# EAGLE library part TM1637 (library tm1637)
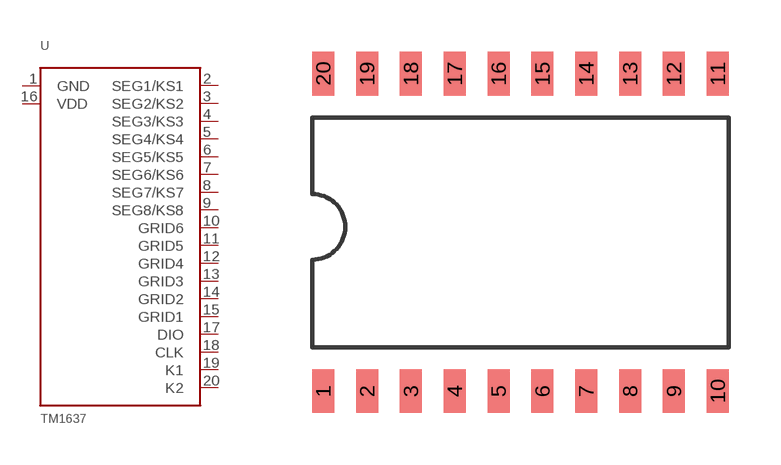
[diagram p0: symbol with the pads of SOP20; footprint SOP20]

Designator prefix -

## TM1637SOP20  [SOP20]
1  GND
2  SEG1/KS1
3  SEG2/KS2
4  SEG3/KS3
5  SEG4/KS4
6  SEG5/KS5
7  SEG6/KS6
8  SEG7/KS7
9  SEG8/KS8
10  GRID6
11  GRID5
12  GRID4
13  GRID3
14  GRID2
15  GRID1
16  VDD
17  DIO
18  CLK
19  K1
20  K2

## Footprint SOP20 (pad centres in mm)
smd 0.635 x 1.27: 1 -5.08,-5.08; 2 -3.81,-5.08; 3 -2.54,-5.08; 4 -1.27,-5.08; 5 0,-5.08; 6 1.27,-5.08; 7 2.54,-5.08; 8 3.81,-5.08; 9 5.08,-5.08; 10 6.35,-5.08; 11 6.35,4.128; 12 5.08,4.128; 13 3.81,4.128; 14 2.54,4.128; 15 1.27,4.128; 16 0,4.128; 17 -1.27,4.128; 18 -2.54,4.128; 19 -3.81,4.128; 20 -5.08,4.128